# EAGLE library part LT3045 (library IC)
20V, 500mA, Ultralow Noise,Ultrahigh PSRR Linear Regulator The LT®3045 is a high performance low dropout linear regulator featuring LTC’s ultralow noise and ultrahigh PSRR architecture for powering noise sensitive applications. Designed as a precision current reference followed by a high performance voltage buffer, the LT3045 can be easily paralleled to further reduce noise, increase output current and spread heat on the PCB. The device supplies 500mA at a typical 260mV dropout voltage. Operating quiescent current is nominally 2.2mA and drops to <<1µA in shutdown. The LT3045’s wide output voltage range (0V to 15V) while maintaining unitygain operation provides virtually constant output noise, PSRR, bandwidth and load regulation, independent of the programmed output voltage. Additionally, the regulator features programmable current limit, fast start-up capability and programmable power good to indicate output voltage regulation. The LT3045 is stable with a minimum 10µF ceramic output capacitor. Built-in protection includes reverse battery protection, reverse current protection, internal current limit with foldback and thermal limit with hysteresis. The LT3045 is available in thermally enhanced 12-Lead MSOP and 10-Lead 3mm × 3mm DFN packages.
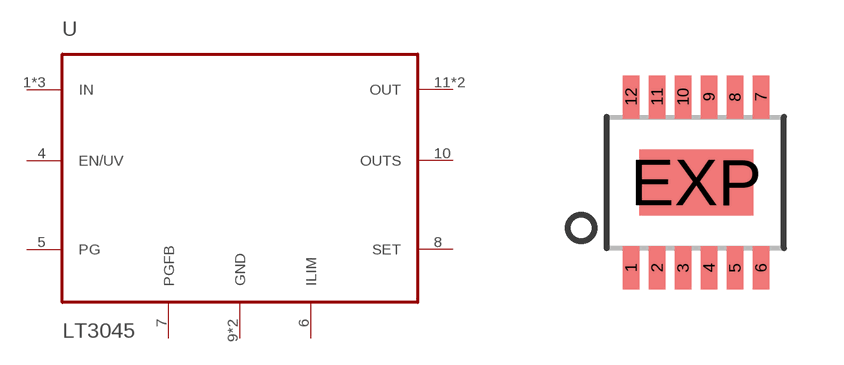
[diagram p5: symbol with the pads of MSOP-12-EP; footprint MSOP-12-EP]

Designator prefix U

## LT3045  [MSOP-12-EP]
1  IN  pwr
2  IN  pwr
3  IN  pwr
4  EN/UV  in
5  PG  oc
6  ILIM  out
7  PGFB  in
8  SET  out
9  GND  pwr
10  OUTS  in
11  OUT  pwr
12  OUT  pwr
EXP  GND  pwr

## Footprint MSOP-12-EP (pad centres in mm)
smd 0.42 x 1.08: 1 0,0; 2 0.65,0; 3 1.3,0; 4 1.95,0; 5 2.6,0; 6 3.25,0; 7 3.25,4.28; 8 2.6,4.28; 9 1.95,4.28; 10 1.3,4.28; 11 0.65,4.28; 12 0,4.28
smd 2.85 x 1.655: EXP 1.625,2.14